# EAGLE library part 8PIN (library jst_eh)
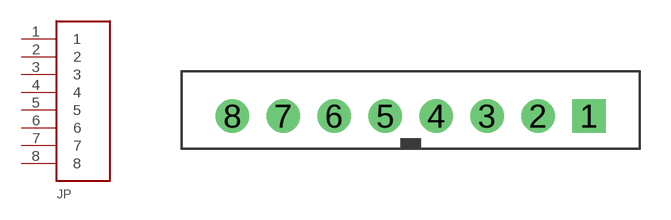
[diagram p2: symbol with the pads of B8B-EH; footprint B8B-EH]

Designator prefix JP

## 8PIN  [B8B-EH]
1  1
2  2
3  3
4  4
5  5
6  6
7  7
8  8

## Footprint B8B-EH (pad centres in mm)
drill 1.1 square: 1 8.75,0
drill 1.1: 2 6.25,0; 3 3.75,0; 4 1.25,0; 5 -1.25,0; 6 -3.75,0; 7 -6.25,0; 8 -8.75,0